# EAGLE library part TIC1XX (library TIC)
TIC TIC1xx TIC149 TIC154 TIC157
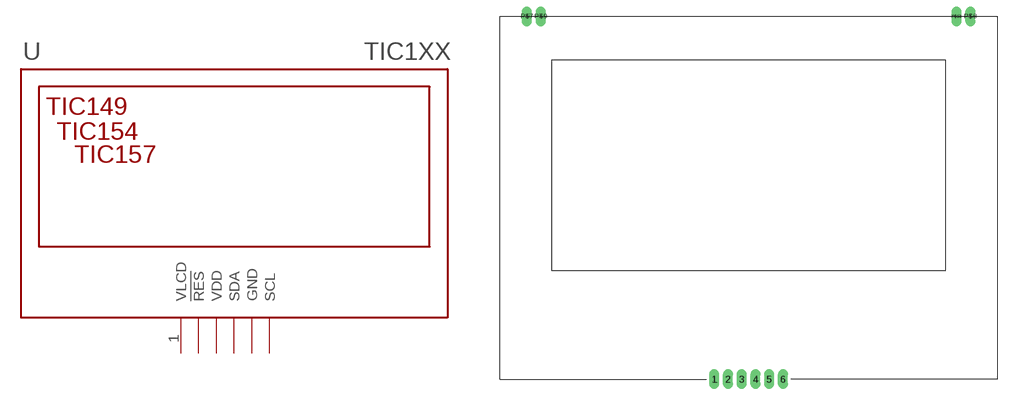
[diagram p0: symbol with the pads of TIC1XX; footprint TIC1XX]

Designator prefix -

## TIC1XX  [TIC1XX]
1  VLCD
2  !RES
3  VDD
4  SDA
5  GND
6  SCL

## Footprint TIC1XX (pad centres in mm)
TIC
drill 0.8 long: 1 28,0; 2 29.8,0; 3 31.6,0; 4 33.4,0; 5 35.2,0; 6 37,0; P$7 3.5,47.5; P$8 61.5,47.5; P$9 5.3,47.5; P$10 59.7,47.5